# EAGLE library part PINHEAD_2X9_SMD_2.54 (library ads1292_Dorokhov)
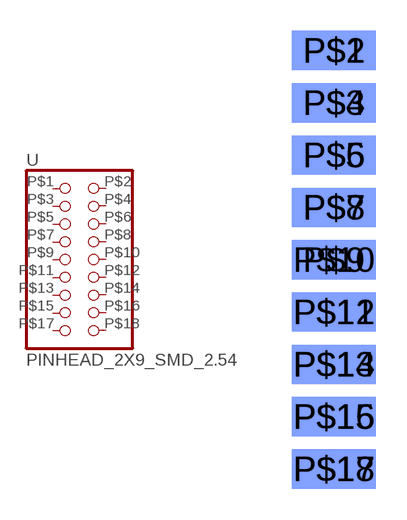
[diagram p4: symbol with the pads of PINHEAD_2X9_SMD_2.5; footprint PINHEAD_2X9_SMD_2.5]

Designator prefix -

## PINHEAD_2X9_SMD_2.54  [PINHEAD_2X9_SMD_2.5]
P$1  1  pas
P$2  2  pas
P$3  3  pas
P$4  4  pas
P$5  5  pas
P$6  6  pas
P$7  7  pas
P$8  8  pas
P$9  9  pas
P$10  10  pas
P$11  11  pas
P$12  12  pas
P$13  13  pas
P$14  14  pas
P$15  15  pas
P$16  16  pas
P$17  17  pas
P$18  18  pas

## Footprint PINHEAD_2X9_SMD_2.5 (pad centres in mm)
smd 4.064 x 1.905: P$1 1.27,10.16; P$3 1.27,7.62; P$5 1.27,5.08; P$7 1.27,2.54; P$9 1.27,0; P$11 1.27,-2.54; P$13 1.27,-5.08; P$15 1.27,-7.62; P$17 1.27,-10.16
smd 4.064 x 1.905 bottom: P$2 1.27,10.16; P$4 1.27,7.62; P$6 1.27,5.08; P$8 1.27,2.54; P$10 1.27,0; P$12 1.27,-2.54; P$14 1.27,-5.08; P$16 1.27,-7.62; P$18 1.27,-10.16